# EAGLE library part TEMP_ADT7410 (library microbuilder)
ADT7410 - 13-bit 0.5°C I2C Temperature Sensor Operating Voltage: 2.7-5.5V Temperature Range: -55°C-150°C Accuracy: 0.5°C from -40°C-105°C Shutdown Current: 2uA (3.3V) Typical Operating Current (1 Sample/s): 46uA (3.3V) Digikey: ADT7410TRZ-ND
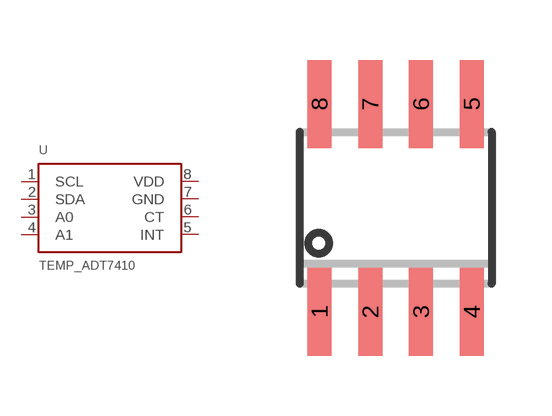
[diagram p58: symbol with the pads of SOIC8_150MIL; footprint SOIC8_150MIL]

Designator prefix U

## TEMP_ADT7410  [SOIC8_150MIL]
1  SCL
2  SDA
3  A0
4  A1
5  INT
6  CT
7  GND  pwr
8  VDD  pwr

## Footprint SOIC8_150MIL (pad centres in mm)
Small Outline IC - 150mil Wide
smd 0.6 x 2.2: 1 -1.905,-2.6; 2 -0.635,-2.6; 3 0.635,-2.6; 4 1.905,-2.6; 5 1.905,2.6; 6 0.635,2.6; 7 -0.635,2.6; 8 -1.905,2.6